# Altium footprint library TpGivenLib.PcbLib: 23 footprints (part 1 of 2)
Each footprint in its own frame and in the unit in brackets; x right, y up, seen from the top. Pads: shape width x height; smd on the part's side, far side on the other; paste and mask are expansions set on the pad; w line width, h text height; cw(c..) or ccw(c..) is an arc to the next point about the centre after c.
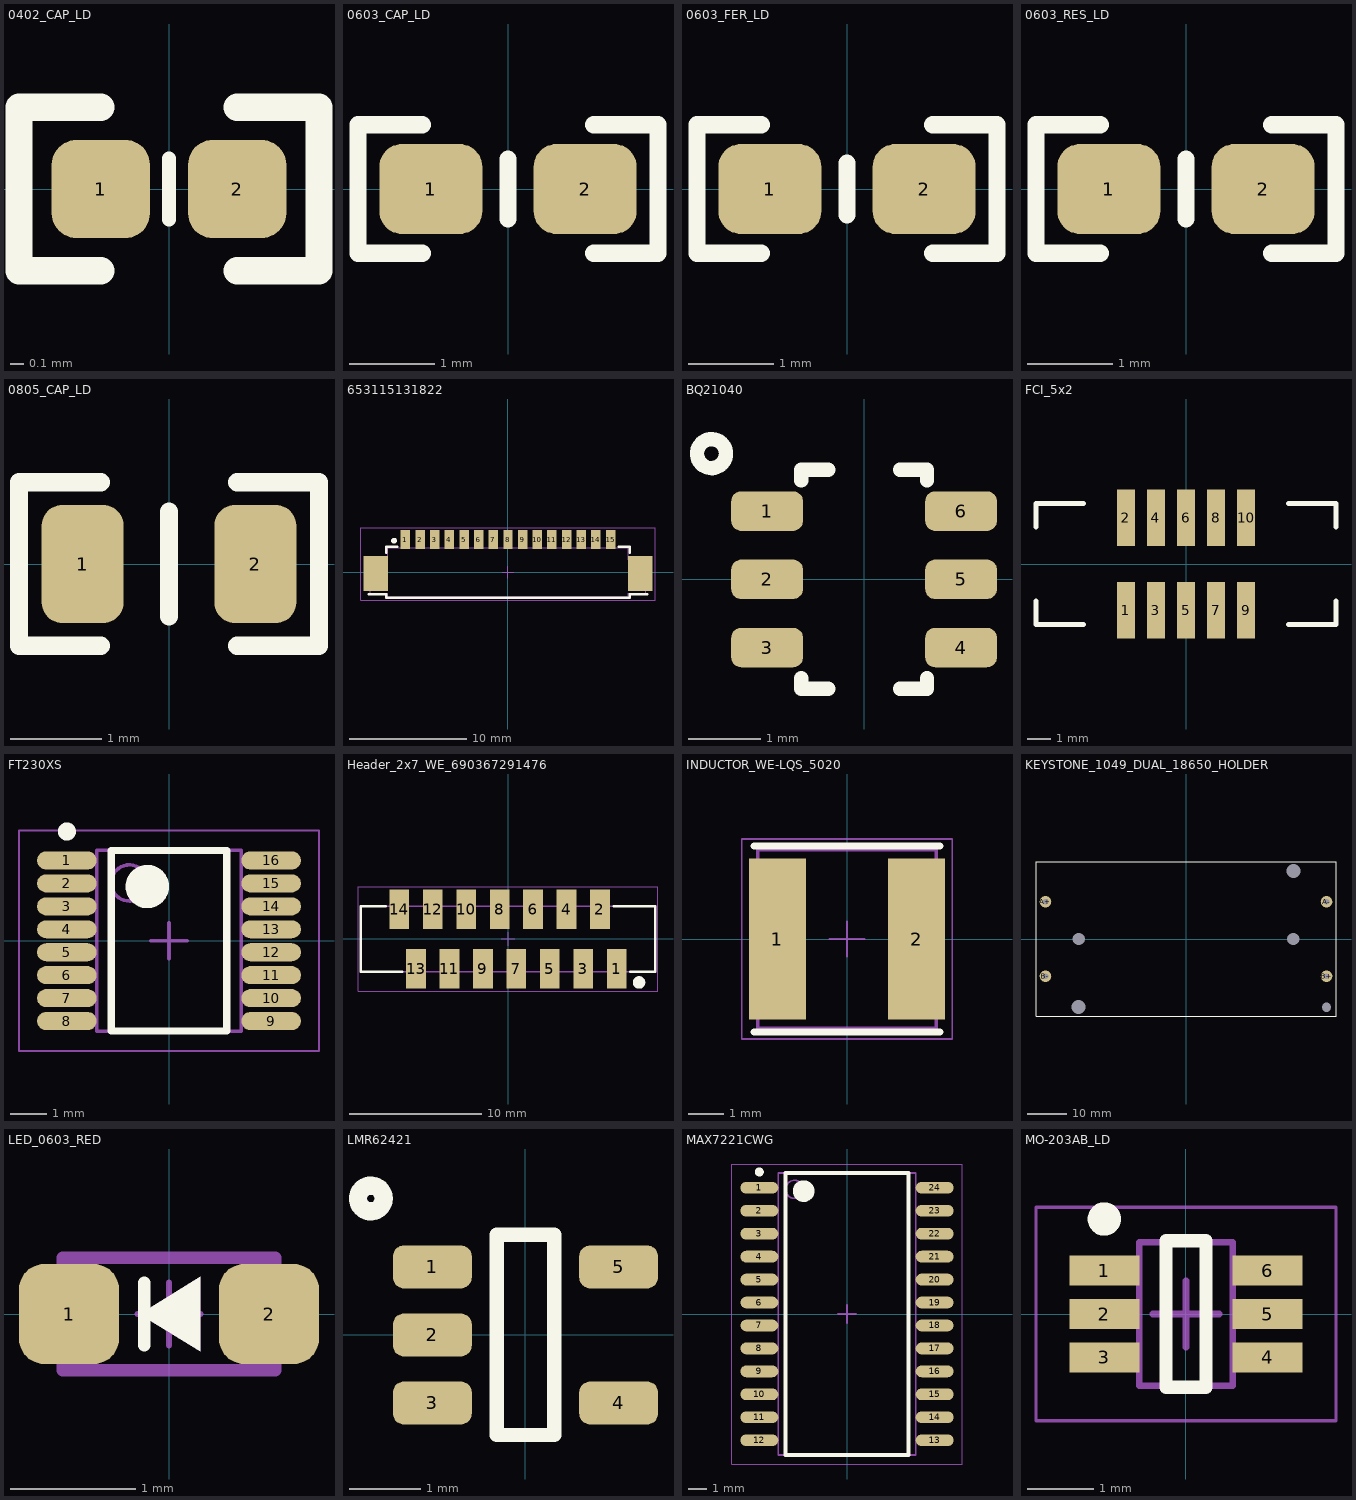
[diagram p0: the footprints below, top view; thin cyan lines are the x and y axes]

## 0402_CAP_LD [mm] "0402 Capacitor low Density"
pads (2):
  rrect50% 0.72x0.72 smd: 1(-0.5,0) 2(0.5,0)
Top Overlay:
  lines w0.1: 0,-0.225 0,0.225
  lines w0.2: -0.5,-0.6 -1.1,-0.6 -1.1,0.6 -0.5,0.6 ; 0.5,-0.6 1.1,-0.6 1.1,0.6 0.5,0.6
3D body "0402_Capacitor.stp": height 0.55, standoff 0, extent -0.525,-0.275 0.525,0.275

## 0603_CAP_LD [mm] "0603 Capacitor Low Density"
height 0.55
pads (2):
  rrect50% 1.2x1.05 smd: 1(-0.9,0) 2(0.9,0)
Top Overlay:
  lines w0.2: -1,-0.75 -1.75,-0.75 -1.75,0.75 -1,0.75 ; 0,-0.35 0,0.35 ; 1,-0.75 1.75,-0.75 1.75,0.75 1,0.75
3D body: height 0.55, standoff 0, extent -0.55,-0.45 0.55,0.45
3D body: height 0.55, standoff 0, extent -0.85,-0.45 -0.55,0.45
3D body: height 0.55, standoff 0, extent 0.55,-0.45 0.85,0.45

## 0603_FER_LD [mm] "0603 Ferrite Bead Low Density"
pads (2):
  rrect50% 1.2x1.05 smd: 1(-0.9,0) 2(0.9,0)
Top Overlay:
  lines w0.2: -1,-0.75 -1.75,-0.75 -1.75,0.75 -1,0.75 ; 0,-0.3 0,0.3 ; 1,-0.75 1.75,-0.75 1.75,0.75 1,0.75
3D body "FB_0603.STEP": height 0.78, standoff -0.02, extent -0.8,-0.4 0.8,0.4

## 0603_RES_LD [mm] "0603 Resistor Low Density"
height 0.55
pads (2):
  rrect50% 1.2x1.05 smd: 1(-0.9,0) 2(0.9,0)
Top Overlay:
  lines w0.2: -1,-0.75 -1.75,-0.75 -1.75,0.75 -1,0.75 ; 0,-0.35 0,0.35 ; 1,-0.75 1.75,-0.75 1.75,0.75 1,0.75
3D body: height 0.55, standoff 0, extent -0.85,-0.45 -0.55,0.45
3D body: height 0.55, standoff 0, extent -0.55,-0.45 0.55,0.45
3D body: height 0.55, standoff 0, extent 0.55,-0.45 0.85,0.45

## 0805_CAP_LD [mm] "0805 Capacitor low Density"
pads (2):
  rrect50% 0.9x1.3 smd: 1(-0.95,0) 2(0.95,0)
Top Overlay:
  lines w0.2: -0.75,-0.9 -1.65,-0.9 -1.65,0.9 -0.75,0.9 ; 0,-0.575 0,0.575 ; 0.75,-0.9 1.65,-0.9 1.65,0.9 0.75,0.9
3D body "CAPC-0805-T0.95-BN.stp": height 0.95, standoff 0, extent -1.05,-0.675 1.05,0.675

## 653115131822 [mm] "1.25mm SMT Male Horizontal Shrouded Header, 15p"
height 3.4
pads (17):
  rect 0.81x1.6 smd: 1(-8.75,2.8) 2(-7.5,2.8) 3(-6.25,2.8) 4(-5,2.8) 5(-3.75,2.8) 6(-2.5,2.8) 7(-1.25,2.8) 8(0,2.8) 9(1.25,2.8) 10(2.5,2.8) 11(3.75,2.8) 12(5,2.8) 13(6.25,2.8) 14(7.5,2.8) 15(8.75,2.8)
  rect 2.1x3 smd: ""(-11.3,-0.1) ""(11.3,-0.1)
Top Overlay:
  circle w0.25: c-9.725,2.7 r0.125
  lines w0.2: -11.9,-1.875 -10.4,-1.875 -10.4,-2.175 10.4,-2.175 10.4,-1.875 11.9,-1.875 ; -10.4,1.675 -10.4,2.175 -9.45,2.175 ; 9.45,2.175 10.4,2.175 10.4,1.675
Mechanical 13:
  lines w0.1: -11.75,-1.78 -11.75,1.08 -10.25,1.08 -10.25,2.1 10.25,2.1 10.25,1.08 11.75,1.08 11.75,-1.78 ; -11.73,-1.8 -10.25,-1.8 -10.25,-2.1 10.25,-2.1 10.25,-1.8 11.73,-1.8
Mechanical 15:
  lines w0.05: -0.5,0 0.5,0 ; 0,-0.5 0,0.5 ; -12.55,-2.375 -12.55,3.8 12.55,3.8 12.55,-2.375 -12.55,-2.375
3D body "653115131822.stp": height 3.4, standoff -0.01, extent -11.75,-2.1 11.75,3.3

## BQ21040 [mm] "BQ21040 Texas single Cell Charger SOT23 6 Leads"
pads (6):
  rrect50% 1x0.55 smd mask+0.102: 1(-1.35,0.95) 2(-1.35,0) 3(-1.35,-0.95) 4(1.35,-0.95) 5(1.35,0) 6(1.35,0.95)
Top Overlay:
  circle w0.2: c-2.125,1.75 r0.202
  lines w0.2: -0.875,-1.375 -0.875,-1.525 -0.5,-1.525 ; -0.875,1.375 -0.875,1.525 -0.5,1.525 ; 0.5,-1.525 0.875,-1.525 0.875,-1.375 ; 0.5,1.525 0.875,1.525 0.875,1.375
3D body "MO-178AB.stp": height 1.45, standoff 0, extent -1.5,-1.525 1.5,1.525

## FCI_5x2 [mm] "FCI Header 10x2 1.27 pitch"
pads (10):
  rect 0.76x2.4 smd: 1(-2.54,-1.95) 2(-2.54,1.95) 3(-1.27,-1.95) 4(-1.27,1.95) 5(0,-1.95) 6(0,1.95) 7(1.27,-1.95) 8(1.27,1.95) 9(2.54,-1.95) 10(2.54,1.95)
Top Overlay:
  lines w0.2: -6.325,-1.55 -6.325,-2.55 -4.325,-2.55 ; -6.325,1.55 -6.325,2.55 -4.325,2.55 ; 4.325,-2.55 6.325,-2.55 6.325,-1.55 ; 4.325,2.55 6.325,2.55 6.325,1.55
3D body "FCI_Header_5x2.stp": height 5.4, standoff -0.2, extent -6.325,-2.75 6.325,2.75

## FT230XS [mm] "FT230XS SSOP16"
height 1.76
pads (16):
  oval 1.65x0.5 smd: 1(-2.825,2.222) 2(-2.825,1.587) 3(-2.825,0.953) 4(-2.825,0.318) 5(-2.825,-0.318) 6(-2.825,-0.953) 7(-2.825,-1.587) 8(-2.825,-2.222) 9(2.825,-2.222) 10(2.825,-1.587) 11(2.825,-0.953) 12(2.825,-0.318) 13(2.825,0.318) 14(2.825,0.953) 15(2.825,1.587) 16(2.825,2.222)
Top Overlay:
  circle w0.6: c-0.6,1.5 r0.3
  circle w0.25: c-2.825,3.023 r0.125
  lines w0.2: -1.6,-2.5 1.6,-2.5 1.6,2.5 -1.6,2.5 -1.6,-2.5
Mechanical 13:
  circle w0.1: c-1.1,1.6 r0.5
  lines w0.1: -2,-2.5 2,-2.5 2,2.5 -2,2.5 -2,-2.5
Mechanical 15:
  lines w0.05: -4.15,-3.05 4.15,-3.05 4.15,3.05 -4.15,3.05 -4.15,-3.05
  lines w0.1: -0.5,0 0.5,0 ; 0,-0.5 0,0.5
3D body "FT230XS.step": height 1.75, standoff 0, extent -2.997,-2.5 2.997,2.5

## Header_2x7_WE_690367291476 [mm] "MiniModule Connectors, PCB Type, Female, SMT, Vertical, 14p"
height 5.45
pads (14):
  rect 1.5x3 smd: 1(8.255,-2.25) 2(6.985,2.25) 3(5.715,-2.25) 4(4.445,2.25) 5(3.175,-2.25) 6(1.905,2.25) 7(0.635,-2.25) 8(-0.635,2.25) 9(-1.905,-2.25) 10(-3.175,2.25) 11(-4.445,-2.25) 12(-5.715,2.25) 13(-6.985,-2.25) 14(-8.255,2.25)
Top Overlay:
  circle w0.5: c9.95,-3.3 r0.224
  lines w0.2: -9.3,2.5 -11.19,2.5 -11.19,-2.5 -8.05,-2.5 ; 8.05,2.5 11.19,2.5 11.19,-2.5 9.3,-2.5
Mechanical 13:
  lines w0.1: -11.19,-2.5 -11.19,2.5 11.19,2.5 11.19,-2.5 -11.19,-2.5
Mechanical 15:
  lines w0.05: -0.5,0 0.5,0 ; 0,-0.5 0,0.5 ; -11.39,-3.95 -11.39,3.95 11.39,3.95 11.39,-3.95 -11.39,-3.95
3D body "690367291476.stp": height 5.75, standoff 0, extent -11.185,-3.499 11.185,3.498

## INDUCTOR_WE-LQS_5020 [mm] "SMD Power Inductor, 2-Leads, body 5x5mm"
height 2
pads (2):
  rect 1.6x4.5 smd: 1(-1.95,0) 2(1.95,0)
Top Overlay:
  lines w0.2: -2.6,-2.6 2.6,-2.6 ; -2.6,2.6 2.6,2.6
Mechanical 13:
  lines w0.1: -2.5,-2.5 -2.5,2.5 2.5,2.5 2.5,-2.5 -2.5,-2.5
Mechanical 15:
  lines w0.05: -0.5,0 0.5,0 ; 0,-0.5 0,0.5 ; -2.95,-2.8 2.95,-2.8 2.95,2.8 -2.95,2.8 -2.95,-2.8
3D body "IndLQS_5020S.stp": height 2, standoff 0, extent -2.5,-2.5 2.5,2.5

## KEYSTONE_1049_DUAL_18650_HOLDER [mm] "Keystone dual 18650 Holder"
pads (9):
  round 3 hole 1.5: A+(-36.11,9.565) A-(36.11,9.565) B+(36.11,-9.565) B-(-36.11,-9.565)
  round 0 hole 3.6 unplated: ""(-27.6,-17.5) ""(27.6,17.5)
  round 0 hole 3.2 unplated: ""(-27.6,0) ""(27.6,0)
  round 0 hole 2.4 unplated: ""(36.11,-17.5)
Top Overlay:
  lines w0.2: -38.54,-19.9 -38.54,19.9 38.54,19.9 38.54,-19.9 -38.54,-19.9
3D body "keystone-PN1049P.STEP": height 14.91, standoff -3.56, extent -38.453,-19.85 38.603,19.926

## LED_0603_RED [mm] "SMD LED 0603"
height 0.7
pads (2):
  rrect50% 0.8x0.8 smd: 1(-0.8,0) 2(0.8,0)
Top Overlay:
  region: -0.233,0 0.25,-0.3 0.25,0.3
  lines w0.1: -0.2,-0.25 -0.2,0.25
Mechanical 13:
  region: -0.233,0 0.25,-0.3 0.25,0.3
  lines w0.1: -0.85,-0.45 0.85,-0.45 0.85,0.45 -0.85,0.45 -0.85,-0.45
Mechanical 15:
  lines w0.05: -0.25,0 0.25,0 ; 0,-0.25 0,0.25
3D body "User Library-LED_0603_R.STEP": height 0.59, standoff -0.01, extent -0.8,-0.4 0.8,0.4

## LMR62421 [mm] "LMR62421 Texas SOT-23"
pads (5):
  rrect50% 1.1x0.6 smd: 1(-1.3,0.95) 2(-1.3,0) 3(-1.3,-0.95) 4(1.3,-0.95) 5(1.3,0.95)
Top Overlay:
  circle w0.254: c-2.159,1.905 r0.18
  lines w0.2: -0.4,-1.397 0.4,-1.397 0.4,1.397 -0.4,1.397 -0.4,-1.397
3D body "SOT23-5.stp": height 1.2, standoff 0.02, extent -1.418,-1.5 1.418,1.5

## MAX7221CWG [mm] "MAX7221CWG SOIC 24"
height 2.65
pads (24):
  oval 2.1x0.65 smd: 1(-4.85,6.985) 2(-4.85,5.715) 3(-4.85,4.445) 4(-4.85,3.175) 5(-4.85,1.905) 6(-4.85,0.635) 7(-4.85,-0.635) 8(-4.85,-1.905) 9(-4.85,-3.175) 10(-4.85,-4.445) 11(-4.85,-5.715) 12(-4.85,-6.985) 13(4.85,-6.985) 14(4.85,-5.715) 15(4.85,-4.445) 16(4.85,-3.175) 17(4.85,-1.905) 18(4.85,-0.635) 19(4.85,0.635) 20(4.85,1.905) 21(4.85,3.175) 22(4.85,4.445) 23(4.85,5.715) 24(4.85,6.985)
Top Overlay:
  circle w0.6: c-2.4,6.8 r0.3
  circle w0.25: c-4.85,7.86 r0.125
  lines w0.2: -3.4,-7.8 3.4,-7.8 3.4,7.8 -3.4,7.8 -3.4,-7.8
Mechanical 13:
  circle w0.1: c-2.9,6.9 r0.5
  lines w0.1: -3.8,-7.8 3.8,-7.8 3.8,7.8 -3.8,7.8 -3.8,-7.8
Mechanical 15:
  lines w0.05: -6.375,-8.3 6.375,-8.3 6.375,8.3 -6.375,8.3 -6.375,-8.3
  lines w0.1: -0.5,0 0.5,0 ; 0,-0.5 0,0.5
3D body "MAX7221CWG.step": height 2.65, standoff 0, extent -5.162,-7.8 5.162,7.8

## MO-203AB_LD [mm] "MO-203AB Low Density SOT23 6 Leads"
height 1.1
pads (6):
  rect 1.05x0.45 smd: 1(-1.225,0.65) 2(-1.225,0) 3(-1.225,-0.65) 4(1.225,-0.65) 5(1.225,0) 6(1.225,0.65)
Top Overlay:
  circle w0.25: c-1.225,1.425 r0.125
  lines w0.2: -0.3,-1.1 -0.3,1.1 0.3,1.1 0.3,-1.1 -0.3,-1.1
Mechanical 13:
  lines w0.1: -0.7,-1.075 0.7,-1.075 0.7,1.075 -0.7,1.075 -0.7,-1.075
Mechanical 15:
  lines w0.05: -2.25,-1.6 2.25,-1.6 2.25,1.6 -2.25,1.6 -2.25,-1.6
  lines w0.1: -0.5,0 0.5,0 ; 0,-0.5 0,0.5
3D body "MO-203AB_LD.step": height 1.1, standoff 0, extent -1.2,-1.075 1.2,1.075